# Altium schematic symbol library CI.SchLib: 4 symbols
Pins are listed as number, name and electrical type; pins without a type are passive.

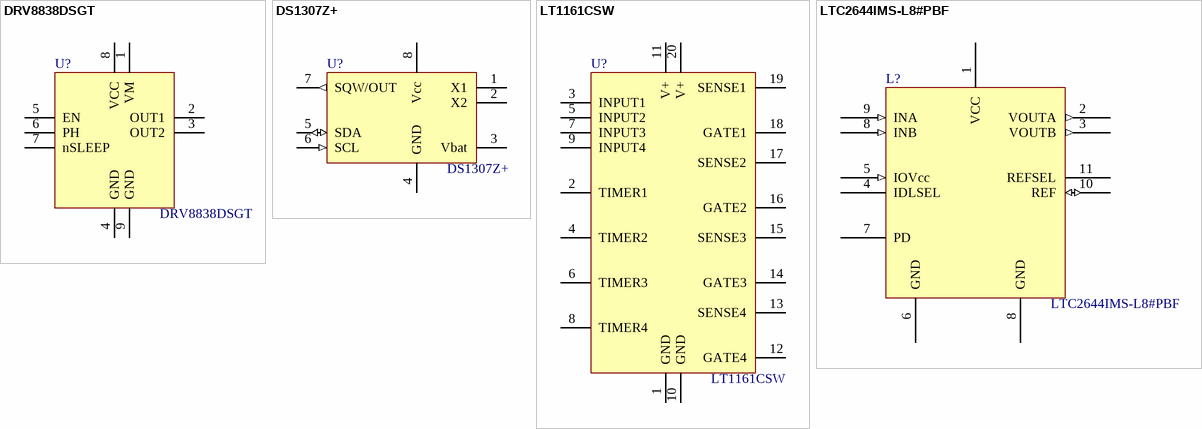
[diagram p0: symbols DRV8838DSGT to LTC2644IMS-L8#PBF]

## DRV8838DSGT
designator U?
IC BRIDGE DRIVER PAR 8WSON; Manufacturer: Texas Instruments; Supplier 1: Farnell; Manufacturer Part Number: DRV8838DSGT; ComponentLink1URL: http://www.ti.com/lit/ds/symlink/drv8838.pdf; ComponentLink1Description: Datasheet; Supplier Part Number 1: 2420232
footprint PSON50P200X80_HS-9N (PSON, 8-Leads, Body 2,00x2,00mm, Pitch 0,50mm, Thermal Pad 1,60x0,82mm, IPC Medium Density)
pins: 1 VM (power), 2 OUT1, 3 OUT2, 4 GND (power), 5 EN, 6 PH, 7 nSLEEP, 8 VCC (power), 9 GND (power)

## DS1307Z+
designator U?
IC RTC CLK/CALENDAR I2C 8-SOIC; Manufacturer: Maxim Integrated; Manufacturer Part Number: DS1307Z+; ComponentLink1URL: http://datasheets.maximintegrated.com/en/ds/DS1307.pdf; ComponentLink1Description: datasheet; Supplier 1: Digi-Key; Supplier Part Number 1: DS1307Z+-ND
pins: 1 X1, 2 X2, 3 Vbat (power), 4 GND (power), 5 SDA (io), 6 SCL (in), 7 SQW/OUT (out), 8 Vcc (power)

## LT1161CSW
designator U?
IC MOSFET DRIVER N-CH QUAD20SOIC; Manufacturer: Linear Technology; Supplier 1: Farnell; Supplier Part Number 1: 1273476; Manufacturer Part Number: LT1161CSW; ComponentLink1URL: http://www.linear.com/docs/3607; ComponentLink1Description: Datasheet
footprint SOIC127P1030X264-20N (SOIC, 20-Leads, Body 12,80x7,49mm, Pitch 1,27mm, IPC Medium Density)
pins: 1 GND (power), 2 TIMER1, 3 INPUT1, 4 TIMER2, 5 INPUT2, 6 TIMER3, 7 INPUT3, 8 TIMER4, 9 INPUT4, 10 GND (power), 11 V+ (power), 12 GATE4, 13 SENSE4, 14 GATE3, 15 SENSE3, 16 GATE2, 17 SENSE2, 18 GATE1, 19 SENSE1, 20 V+ (power)

## LTC2644IMS-L8#PBF
designator L?
IC DAC 8-BIT VOUT 12MSOP; Manufacturer: Linear Technology; Supplier 1: Farnell; Supplier Part Number 1: 2447854; Manufacturer Part Number: LTC2644IMS-L8#PBF; ComponentLink1URL: http://www.linear.com/docs/45234; ComponentLink1Description: Datasheet
pins: 1 VCC (power), 2 VOUTA (out), 3 VOUTB (out), 4 IDLSEL, 5 IOVcc (in), 6 GND (power), 7 PD, 8 INB (in), 8 GND (power), 9 INA (in), 10 REF (io), 11 REFSEL, 12 nc hidden